# EAGLE library part EXB-2HV431JV (library EXB-2HV431JV)
Res Thick Film Array 430 Ohm 5% 1/4W ±200ppm/°C ISOL Molded 16-Pin 1506(8 X 0402) Convex SMD Punched Carrier T/R Check availability <https://pricing.snapeda.com/parts/EXB-2HV431JV/Panasonic%20Electronic/view-part?ref=eda>
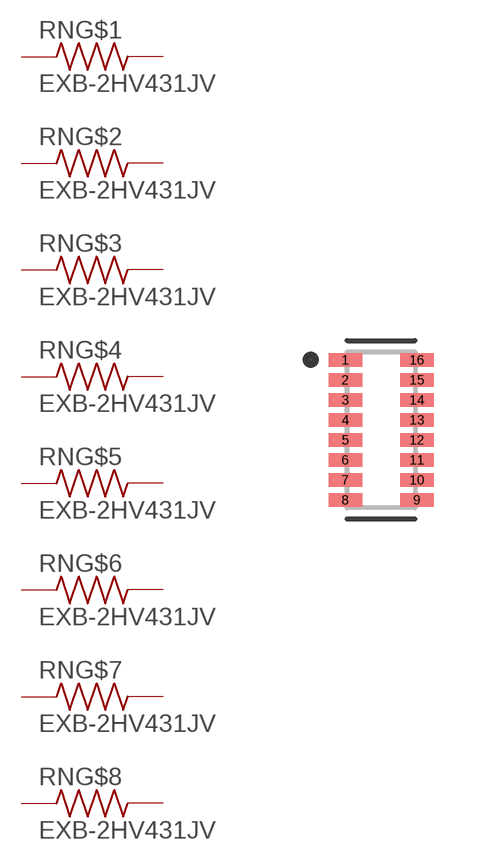
[diagram p0: symbol with the pads of RESCAXE50P380X160X55-16N; footprint RESCAXE50P380X160X55-16N]

Designator prefix RN; gates G$1=EXB-2HV431JV_SECTION1 G$2=EXB-2HV431JV_SECTION2 G$3=EXB-2HV431JV_SECTION3 G$4=EXB-2HV431JV_SECTION4 G$5=EXB-2HV431JV_SECTION5 G$6=EXB-2HV431JV_SECTION6 G$7=EXB-2HV431JV_SECTION7 G$8=EXB-2HV431JV_SECTION8

## EXB-2HV431JV (Availability: In Stock; Description: 430 Ohm ±5% 62.5mW Power Per Element Isolated 8 Resistor Network/Array ±200ppm/°C 1506, Convex, Long Side Terminals; MF: Panasonic Electronic; MP: EXB-2HV431JV; Package: 1506 Panasonic; Price: None; Purchase-URL: https://pricing.snapeda.com/search/part/EXB-2HV431JV/?ref=eda)  [RESCAXE50P380X160X55-16N]
1  G$1:1  pas
2  G$2:1  pas
3  G$3:1  pas
4  G$4:1  pas
5  G$5:1  pas
6  G$6:1  pas
7  G$7:1  pas
8  G$8:1  pas
9  G$8:2  pas
10  G$7:2  pas
11  G$6:2  pas
12  G$5:2  pas
13  G$4:2  pas
14  G$3:2  pas
15  G$2:2  pas
16  G$1:2  pas

## Footprint RESCAXE50P380X160X55-16N (pad centres in mm)
smd 0.84 x 0.34: 1 -0.895,1.75; 2 -0.895,1.25; 3 -0.895,0.75; 4 -0.895,0.25; 5 -0.895,-0.25; 6 -0.895,-0.75; 7 -0.895,-1.25; 8 -0.895,-1.75; 9 0.895,-1.75; 10 0.895,-1.25; 11 0.895,-0.75; 12 0.895,-0.25; 13 0.895,0.25; 14 0.895,0.75; 15 0.895,1.25; 16 0.895,1.75